# Altium integrated library TI Power Management Lighting and Display.IntLib: 745 symbols (part 22 of 48)
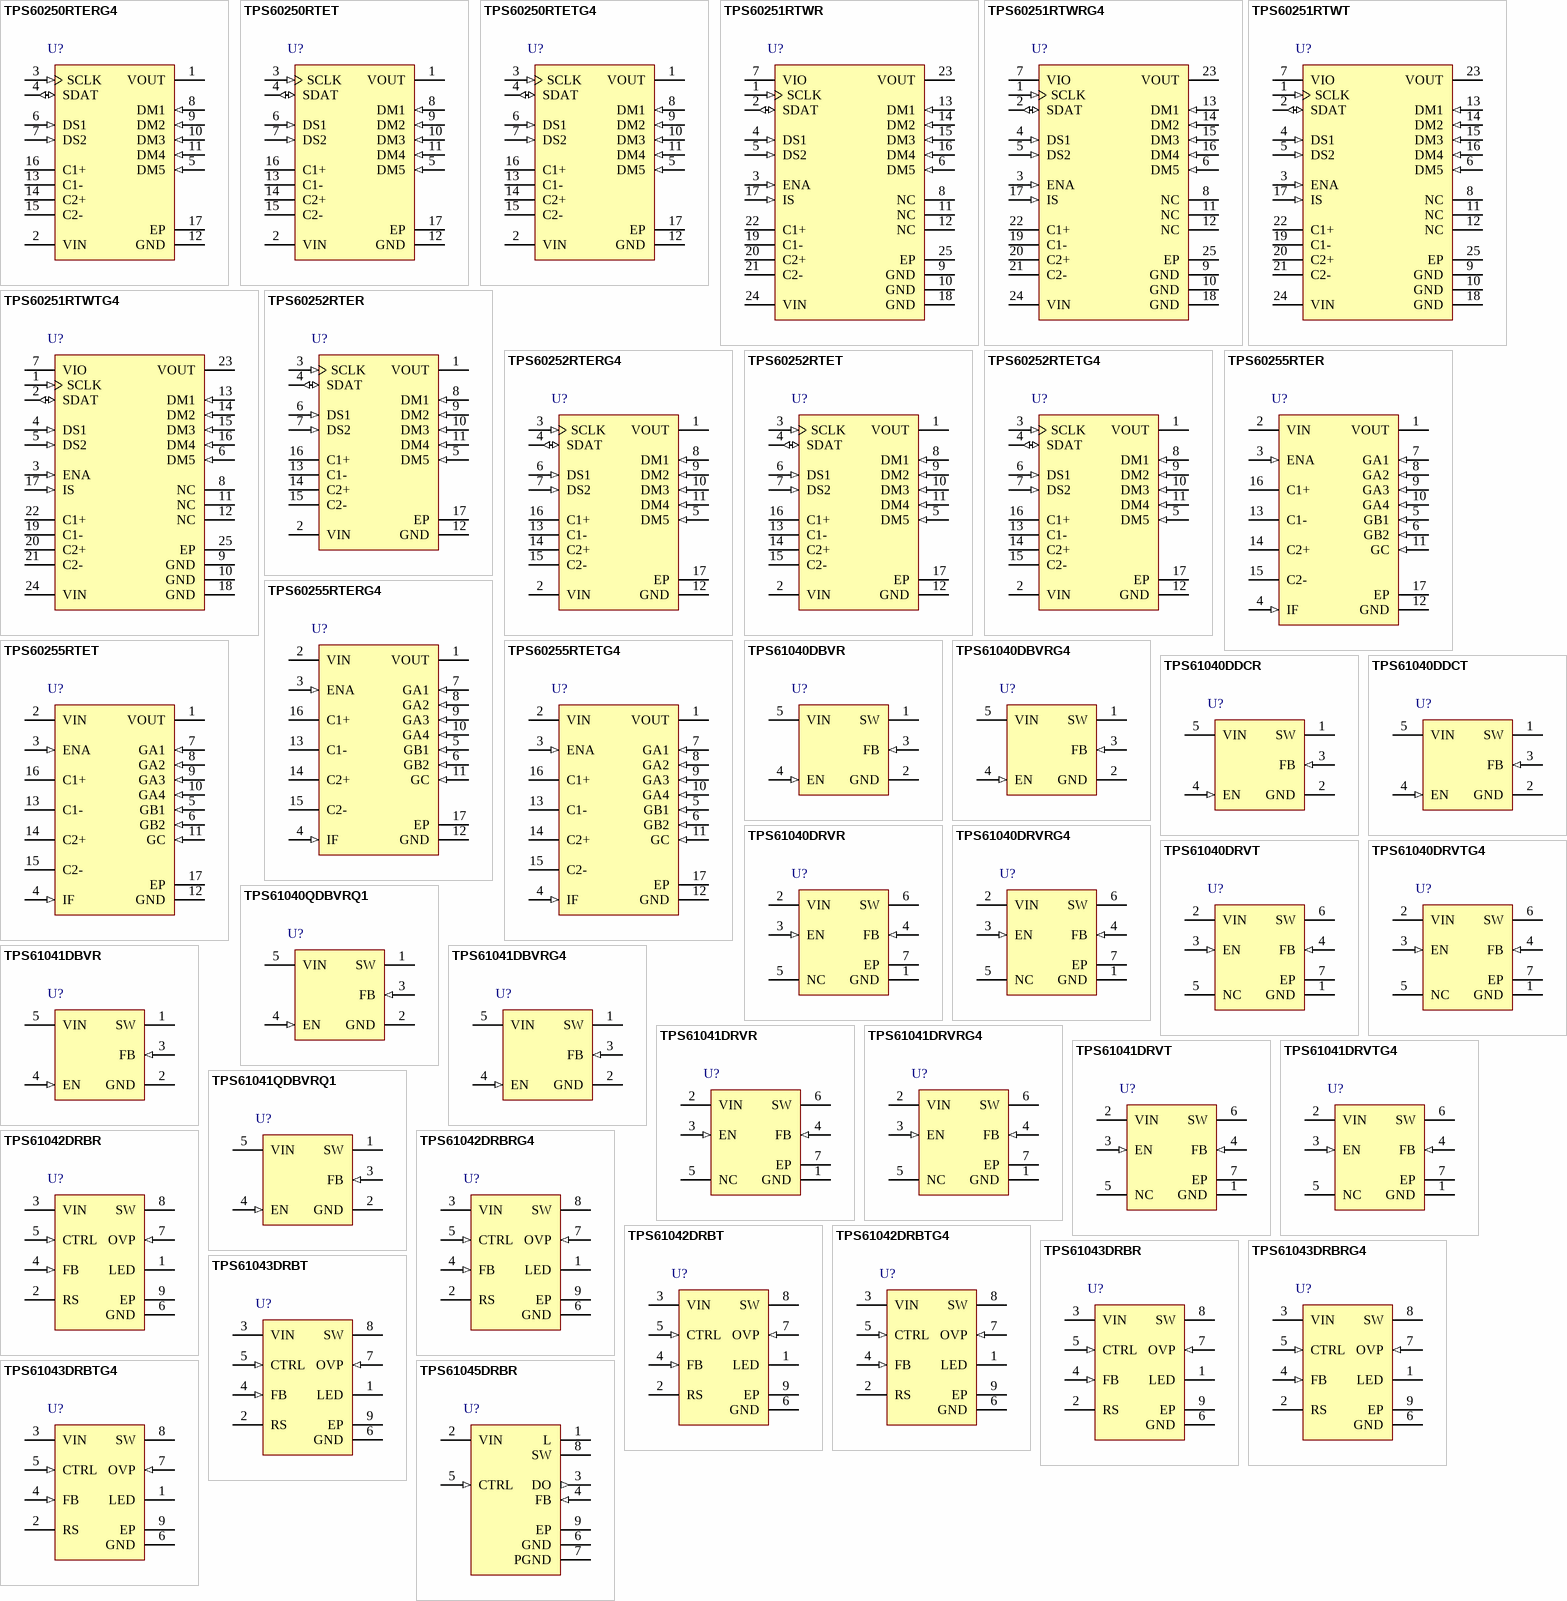
[diagram p52: symbols TPS60250RTERG4 to TPS61045DRBR]

## TPS60251RTWTG4
designator U?
High Efficiency Charge Pump for 7 WLEDs with I2C Interface, 3 to 6 V, -40 to 85 degC, 24-pin QFN (RTW24), Green (RoHS & no Sb/Br); Manufacturer: Texas Instruments; PartNumber: TPS60251RTWTG4; Dimming: TRUE; Iout(Max)(A): 0.23; Iq(Typ)(mA): 0.068; Rating: Catalog; SubFamily: White LED Driver; Switching Frequency(Max)(kHz): 750; Topology: Boost; Vin(Max)(V): 6; Vin(Min)(V): 3; DatasheetVersion: SLVS755; PackageVersion: 4206244/C; PackageReference: RTW24-2450X2450TP; PackageDescription: 24-Pin Plastic Flat Pack, Body 4 x 4 mm, Pitch 0.5 mm; Supplier 1: Digi-Key; Supplier Part Number 1: TPS60251RTWTG4-ND; Supplier 2: Newark; Supplier Part Number 2: 52M6119; Supplier 3: Mouser; Supplier Part Number 3: 595-TPS60251RTWTG4; Eco-Plan: Green (RoHS & no Sb/Br); Mounting Technology: Surface Mount; Code_JEDEC: MO-220; ComponentLink1Description: Manufacturer URL; ComponentLink1URL: http://www.ti.com/; ComponentLink2Description: Datasheet; ComponentLink2URL: http://www.ti.com/general/docs/lit/getliterature.tsp?genericPartNumber=TPS60251&fileType=pdf; ComponentLink3Description: Package Specification; ComponentLink3URL: http://www.ti.com/litv/pdf/mplc004a
footprint TI-RTW24-2450X2450TP_V (QFN, 24-Leads, Body 4x4mm, Pitch 0.5mm, Thermal Pad 2.45x2.45mm)
pins: 1 SCLK (in) "I2C Interface.", 2 SDAT (io) "I2C Interface.", 3 ENA (in) "Hardware enable/disable pin. Connect this pin high to enable the device. Connect this pin low to disable the device. Do not leave this pin unconnected.", 4 DS1 (in) "Current sink input. Connect the cathode of one of the sub display white LEDs to this pin.", 5 DS2 (in) "Current sink input. Connect the cathode of one of the sub display white LEDs to this pin.", 6 DM5 (in) "Current sink input. Connect the cathode of the aux display or the 5th main display white LED to this pin.", 7 VIO (power) "I/O Voltage input (1.8V). Connect an input voltage supply of 1.8V to VIN to set the logic levels for the I2C interface.", 8 NC "No connection.", 9 GND (power) "Ground.", 10 GND (power) "Ground.", 11 NC "No connection.", 12 NC "No connection.", 13 DM1 (in) "Current sink input. Connect the cathode of one of the main display white LED to this pin.", 14 DM2 (in) "Current sink input. Connect the cathode of one of the main display white LED to this pin.", 15 DM3 (in) "Current sink input. Connect the cathode of one of the main display white LED to this pin.", 16 DM4 (in) "Current sink input. Connect the cathode of one of the main display white LED to this pin.", 17 IS (in) "Maximum LED current setting input. Connect a resistor (RIS) between this pin and GND to set the full-scale white LED current for sub (DS1, DS2), main (DM1, DM2, DM3, DM4), and DM5 LEDs. See the Setting the LED Current (See Datasheet)", 18 GND (power) "Ground.", 19 C1- "Connect to the flying capacitor C1.", 20 C2+ "Connect to the flying capacitor C2.", 21 C2- "Connect to the flying capacitor C2.", 22 C1+ "Connect to the flying capacitor C1.", 23 VOUT (power) "Connect the anodes of the sub, main, and aux display white LEDs to this pin. Bypass VOUT to GND with a 4.7-uF or greater ceramic capacitor.", 24 VIN (power) "Supply voltage input. Connect to a 3-V to 6-V input supply source. Bypass VIN to GND with a 4.7-uF or greater ceramic capacitor.", 25 EP "Exposed thermal pad."

## TPS60252RTER
designator U?
High Efficiency Charge Pump for 7 WLEDs with I2C Interface, 3 to 6 V, -40 to 85 degC, 16-pin QFN (RTE16), Green (RoHS & no Sb/Br); Manufacturer: Texas Instruments; PartNumber: TPS60252RTER; Dimming: TRUE; Iout(Max)(A): 0.23; Iq(Typ)(mA): 0.068; Rating: Catalog; SubFamily: White LED Driver; Switching Frequency(Max)(kHz): 750; Topology: Boost; Vin(Max)(V): 6; Vin(Min)(V): 3; DatasheetVersion: SLVS769C; PackageVersion: 4205254/D; PackageReference: RTE16-1700X1700TP; PackageDescription: 16-Pin Plastic Flat Pack, Body 3 x 3 mm, Pitch 0.5 mm; Supplier 1: Digi-Key; Supplier Part Number 1: TPS60252RTER-ND; Supplier 2: Mouser; Supplier Part Number 2: 595-TPS60252RTER; Eco-Plan: Green (RoHS & no Sb/Br); Mounting Technology: Surface Mount; Code_JEDEC: MO-220; ComponentLink1Description: Manufacturer URL; ComponentLink1URL: http://www.ti.com/; ComponentLink2Description: Datasheet; ComponentLink2URL: http://www.ti.com/general/docs/lit/getliterature.tsp?genericPartNumber=TPS60252&fileType=pdf; ComponentLink3Description: Package Specification; ComponentLink3URL: http://www.ti.com/litv/pdf/mpqf149c
footprint TI-RTE16-1700X1700TP_V (QFN, 16-Leads, Body 3x3mm, Pitch 0.5mm, Thermal Pad 1.7x1.7mm)
pins: 1 VOUT (power) "Connect the anodes of the sub, main, and aux display white LEDs to this pin.", 2 VIN (power) "Supply voltage input. Connect to a 3 V to 6 V input supply source.", 3 SCLK (in) "I2C Interface", 4 SDAT (io) "I2C Interface", 5 DM5 (in) "Current sink inputs. Connect the cathode of the aux display or the 5th main display white LED to this pin.", 6 DS1 (in) "Current sink inputs. Connect the cathode of one of the sub display white LEDs to these pins.", 7 DS2 (in) "Current sink inputs. Connect the cathode of one of the sub display white LEDs to these pins.", 8 DM1 (in) "Current sink input. Connect the cathode of one of the main display white LEDs to these pins.", 9 DM2 (in) "Current sink input. Connect the cathode of one of the main display white LEDs to these pins.", 10 DM3 (in) "Current sink input. Connect the cathode of one of the main display white LEDs to these pins.", 11 DM4 (in) "Current sink input. Connect the cathode of one of the main display white LEDs to these pins.", 12 GND (power) "Ground", 13 C1- "Connect to the flying capacitor C1", 14 C2+ "Connect to the flying capacitor C2", 15 C2- "Connect to the flying capacitor C2", 16 C1+ "Connect to the flying capacitor C1", 17 EP (power) "Exposed Thermal Pad"

## TPS60252RTERG4
designator U?
High Efficiency Charge Pump for 7 WLEDs with I2C Interface, 3 to 6 V, -40 to 85 degC, 16-pin QFN (RTE16), Green (RoHS & no Sb/Br); Manufacturer: Texas Instruments; PartNumber: TPS60252RTERG4; Dimming: TRUE; Iout(Max)(A): 0.23; Iq(Typ)(mA): 0.068; Rating: Catalog; SubFamily: White LED Driver; Switching Frequency(Max)(kHz): 750; Topology: Boost; Vin(Max)(V): 6; Vin(Min)(V): 3; DatasheetVersion: SLVS769C; PackageVersion: 4205254/D; PackageReference: RTE16-1700X1700TP; PackageDescription: 16-Pin Plastic Flat Pack, Body 3 x 3 mm, Pitch 0.5 mm; Supplier 1: Digi-Key; Supplier Part Number 1: TPS60252RTERG4-ND; Supplier 2: Mouser; Supplier Part Number 2: 595-TPS60252RTERG4; Eco-Plan: Green (RoHS & no Sb/Br); Mounting Technology: Surface Mount; Code_JEDEC: MO-220; ComponentLink1Description: Manufacturer URL; ComponentLink1URL: http://www.ti.com/; ComponentLink2Description: Datasheet; ComponentLink2URL: http://www.ti.com/general/docs/lit/getliterature.tsp?genericPartNumber=TPS60252&fileType=pdf; ComponentLink3Description: Package Specification; ComponentLink3URL: http://www.ti.com/litv/pdf/mpqf149c
footprint TI-RTE16-1700X1700TP_V (QFN, 16-Leads, Body 3x3mm, Pitch 0.5mm, Thermal Pad 1.7x1.7mm)
pins: 1 VOUT (power) "Connect the anodes of the sub, main, and aux display white LEDs to this pin.", 2 VIN (power) "Supply voltage input. Connect to a 3 V to 6 V input supply source.", 3 SCLK (in) "I2C Interface", 4 SDAT (io) "I2C Interface", 5 DM5 (in) "Current sink inputs. Connect the cathode of the aux display or the 5th main display white LED to this pin.", 6 DS1 (in) "Current sink inputs. Connect the cathode of one of the sub display white LEDs to these pins.", 7 DS2 (in) "Current sink inputs. Connect the cathode of one of the sub display white LEDs to these pins.", 8 DM1 (in) "Current sink input. Connect the cathode of one of the main display white LEDs to these pins.", 9 DM2 (in) "Current sink input. Connect the cathode of one of the main display white LEDs to these pins.", 10 DM3 (in) "Current sink input. Connect the cathode of one of the main display white LEDs to these pins.", 11 DM4 (in) "Current sink input. Connect the cathode of one of the main display white LEDs to these pins.", 12 GND (power) "Ground", 13 C1- "Connect to the flying capacitor C1", 14 C2+ "Connect to the flying capacitor C2", 15 C2- "Connect to the flying capacitor C2", 16 C1+ "Connect to the flying capacitor C1", 17 EP (power) "Exposed Thermal Pad"

## TPS60252RTET
designator U?
High Efficiency Charge Pump for 7 WLEDs with I2C Interface, 3 to 6 V, -40 to 85 degC, 16-pin QFN (RTE16), Green (RoHS & no Sb/Br); Manufacturer: Texas Instruments; PartNumber: TPS60252RTET; Dimming: TRUE; Iout(Max)(A): 0.23; Iq(Typ)(mA): 0.068; Rating: Catalog; SubFamily: White LED Driver; Switching Frequency(Max)(kHz): 750; Topology: Boost; Vin(Max)(V): 6; Vin(Min)(V): 3; DatasheetVersion: SLVS769C; PackageVersion: 4205254/D; PackageReference: RTE16-1700X1700TP; PackageDescription: 16-Pin Plastic Flat Pack, Body 3 x 3 mm, Pitch 0.5 mm; Supplier 1: Digi-Key; Supplier Part Number 1: 296-23407-2-ND; Supplier 2: Digi-Key; Supplier Part Number 2: 296-23407-1-ND; Supplier 3: Digi-Key; Supplier Part Number 3: 296-23407-6-ND; Supplier 4: Farnell; Supplier Part Number 4: 1647912; Supplier 5: Mouser; Supplier Part Number 5: 595-TPS60252RTET; Eco-Plan: Green (RoHS & no Sb/Br); Mounting Technology: Surface Mount; Code_JEDEC: MO-220; ComponentLink1Description: Manufacturer URL; ComponentLink1URL: http://www.ti.com/; ComponentLink2Description: Datasheet; ComponentLink2URL: http://www.ti.com/general/docs/lit/getliterature.tsp?genericPartNumber=TPS60252&fileType=pdf; ComponentLink3Description: Package Specification; ComponentLink3URL: http://www.ti.com/litv/pdf/mpqf149c
footprint TI-RTE16-1700X1700TP_V (QFN, 16-Leads, Body 3x3mm, Pitch 0.5mm, Thermal Pad 1.7x1.7mm)
pins: 1 VOUT (power) "Connect the anodes of the sub, main, and aux display white LEDs to this pin.", 2 VIN (power) "Supply voltage input. Connect to a 3 V to 6 V input supply source.", 3 SCLK (in) "I2C Interface", 4 SDAT (io) "I2C Interface", 5 DM5 (in) "Current sink inputs. Connect the cathode of the aux display or the 5th main display white LED to this pin.", 6 DS1 (in) "Current sink inputs. Connect the cathode of one of the sub display white LEDs to these pins.", 7 DS2 (in) "Current sink inputs. Connect the cathode of one of the sub display white LEDs to these pins.", 8 DM1 (in) "Current sink input. Connect the cathode of one of the main display white LEDs to these pins.", 9 DM2 (in) "Current sink input. Connect the cathode of one of the main display white LEDs to these pins.", 10 DM3 (in) "Current sink input. Connect the cathode of one of the main display white LEDs to these pins.", 11 DM4 (in) "Current sink input. Connect the cathode of one of the main display white LEDs to these pins.", 12 GND (power) "Ground", 13 C1- "Connect to the flying capacitor C1", 14 C2+ "Connect to the flying capacitor C2", 15 C2- "Connect to the flying capacitor C2", 16 C1+ "Connect to the flying capacitor C1", 17 EP (power) "Exposed Thermal Pad"

## TPS60252RTETG4
designator U?
High Efficiency Charge Pump for 7 WLEDs with I2C Interface, 3 to 6 V, -40 to 85 degC, 16-pin QFN (RTE16), Green (RoHS & no Sb/Br); Manufacturer: Texas Instruments; PartNumber: TPS60252RTETG4; Dimming: TRUE; Iout(Max)(A): 0.23; Iq(Typ)(mA): 0.068; Rating: Catalog; SubFamily: White LED Driver; Switching Frequency(Max)(kHz): 750; Topology: Boost; Vin(Max)(V): 6; Vin(Min)(V): 3; DatasheetVersion: SLVS769C; PackageVersion: 4205254/D; PackageReference: RTE16-1700X1700TP; PackageDescription: 16-Pin Plastic Flat Pack, Body 3 x 3 mm, Pitch 0.5 mm; Supplier 1: Digi-Key; Supplier Part Number 1: TPS60252RTETG4-ND; Supplier 2: Mouser; Supplier Part Number 2: 595-TPS60252RTETG4; Eco-Plan: Green (RoHS & no Sb/Br); Mounting Technology: Surface Mount; Code_JEDEC: MO-220; ComponentLink1Description: Manufacturer URL; ComponentLink1URL: http://www.ti.com/; ComponentLink2Description: Datasheet; ComponentLink2URL: http://www.ti.com/general/docs/lit/getliterature.tsp?genericPartNumber=TPS60252&fileType=pdf; ComponentLink3Description: Package Specification; ComponentLink3URL: http://www.ti.com/litv/pdf/mpqf149c
footprint TI-RTE16-1700X1700TP_V (QFN, 16-Leads, Body 3x3mm, Pitch 0.5mm, Thermal Pad 1.7x1.7mm)
pins: 1 VOUT (power) "Connect the anodes of the sub, main, and aux display white LEDs to this pin.", 2 VIN (power) "Supply voltage input. Connect to a 3 V to 6 V input supply source.", 3 SCLK (in) "I2C Interface", 4 SDAT (io) "I2C Interface", 5 DM5 (in) "Current sink inputs. Connect the cathode of the aux display or the 5th main display white LED to this pin.", 6 DS1 (in) "Current sink inputs. Connect the cathode of one of the sub display white LEDs to these pins.", 7 DS2 (in) "Current sink inputs. Connect the cathode of one of the sub display white LEDs to these pins.", 8 DM1 (in) "Current sink input. Connect the cathode of one of the main display white LEDs to these pins.", 9 DM2 (in) "Current sink input. Connect the cathode of one of the main display white LEDs to these pins.", 10 DM3 (in) "Current sink input. Connect the cathode of one of the main display white LEDs to these pins.", 11 DM4 (in) "Current sink input. Connect the cathode of one of the main display white LEDs to these pins.", 12 GND (power) "Ground", 13 C1- "Connect to the flying capacitor C1", 14 C2+ "Connect to the flying capacitor C2", 15 C2- "Connect to the flying capacitor C2", 16 C1+ "Connect to the flying capacitor C1", 17 EP (power) "Exposed Thermal Pad"

## TPS60255RTER
designator U?
7-Channel, High Efficiency 175 mA Charge Pump for White LED Backligh, 2.7 to 6 V, -40 to 85 degC, 16-pin QFN (RTE16), Green (RoHS & no Sb/Br); Manufacturer: Texas Instruments; PartNumber: TPS60255RTER; Dimming: TRUE; Iout(Max)(A): 0.23; Iq(Typ)(mA): 0.068; Rating: Catalog; SubFamily: White LED Driver; Switching Frequency(Max)(kHz): 750; Topology: Boost; Vin(Max)(V): 6; Vin(Min)(V): 2.7; DatasheetVersion: SLVS825; PackageVersion: 4205254/D; PackageReference: RTE16-1700X1700TP; PackageDescription: 16-Pin Plastic Flat Pack, Body 3 x 3 mm, Pitch 0.5 mm; Supplier 1: Digi-Key; Supplier Part Number 1: 296-23329-2-ND; Supplier 2: Digi-Key; Supplier Part Number 2: 296-23329-1-ND; Supplier 3: Digi-Key; Supplier Part Number 3: 296-23329-6-ND; Supplier 4: Mouser; Supplier Part Number 4: 595-TPS60255RTER; Eco-Plan: Green (RoHS & no Sb/Br); Mounting Technology: Surface Mount; Code_JEDEC: MO-220; ComponentLink1Description: Manufacturer URL; ComponentLink1URL: http://www.ti.com/; ComponentLink2Description: Datasheet; ComponentLink2URL: http://www.ti.com/general/docs/lit/getliterature.tsp?genericPartNumber=TPS60255&fileType=pdf; ComponentLink3Description: Package Specification; ComponentLink3URL: http://www.ti.com/litv/pdf/mpqf149c
footprint TI-RTE16-1700X1700TP_V (QFN, 16-Leads, Body 3x3mm, Pitch 0.5mm, Thermal Pad 1.7x1.7mm)
pins: 1 VOUT (power) "Connect the output capacitor and the anode of the white LEDs to this pin", 2 VIN (power) "Supply voltage input", 3 ENA (in) "Hardware Enable/Disable Pin (High = Enable)", 4 IF (in) "Single wire interface for on/off and brightness control.", 5 GB1 (in) "Current sink input. Connect the cathode of the white LED to this pin.", 6 GB2 (in) "Current sink input. Connect the cathode of the white LED to this pin.", 7 GA1 (in) "Current sink input. Connect the cathode of the white LED to this pin.", 8 GA2 (in) "Current sink input. Connect the cathode of the white LED to this pin.", 9 GA3 (in) "Current sink input. Connect the cathode of the white LED to this pin.", 10 GA4 (in) "Current sink input. Connect the cathode of the white LED to this pin.", 11 GC (in) "Current sink input. Connect the cathode of the white LED to this pin.", 12 GND (power) "Ground", 13 C1- "Connect to the flying capacitor C1", 14 C2+ "Connect to the flying capacitor C2", 15 C2- "Connect to the flying capacitor C2", 16 C1+ "Connect to the flying capacitor C1", 17 EP (power) "Exposed Thermal Pad"

## TPS60255RTERG4
designator U?
7-Channel, High Efficiency 175 mA Charge Pump for White LED Backligh, 2.7 to 6 V, -40 to 85 degC, 16-pin QFN (RTE16), Green (RoHS & no Sb/Br); Manufacturer: Texas Instruments; PartNumber: TPS60255RTERG4; Dimming: TRUE; Iout(Max)(A): 0.23; Iq(Typ)(mA): 0.068; Rating: Catalog; SubFamily: White LED Driver; Switching Frequency(Max)(kHz): 750; Topology: Boost; Vin(Max)(V): 6; Vin(Min)(V): 2.7; DatasheetVersion: SLVS825; PackageVersion: 4205254/D; PackageReference: RTE16-1700X1700TP; PackageDescription: 16-Pin Plastic Flat Pack, Body 3 x 3 mm, Pitch 0.5 mm; Supplier 1: Digi-Key; Supplier Part Number 1: TPS60255RTERG4-ND; Supplier 2: Mouser; Supplier Part Number 2: 595-TPS60255RTERG4; Eco-Plan: Green (RoHS & no Sb/Br); Mounting Technology: Surface Mount; Code_JEDEC: MO-220; ComponentLink1Description: Manufacturer URL; ComponentLink1URL: http://www.ti.com/; ComponentLink2Description: Datasheet; ComponentLink2URL: http://www.ti.com/general/docs/lit/getliterature.tsp?genericPartNumber=TPS60255&fileType=pdf; ComponentLink3Description: Package Specification; ComponentLink3URL: http://www.ti.com/litv/pdf/mpqf149c
footprint TI-RTE16-1700X1700TP_V (QFN, 16-Leads, Body 3x3mm, Pitch 0.5mm, Thermal Pad 1.7x1.7mm)
pins: 1 VOUT (power) "Connect the output capacitor and the anode of the white LEDs to this pin", 2 VIN (power) "Supply voltage input", 3 ENA (in) "Hardware Enable/Disable Pin (High = Enable)", 4 IF (in) "Single wire interface for on/off and brightness control.", 5 GB1 (in) "Current sink input. Connect the cathode of the white LED to this pin.", 6 GB2 (in) "Current sink input. Connect the cathode of the white LED to this pin.", 7 GA1 (in) "Current sink input. Connect the cathode of the white LED to this pin.", 8 GA2 (in) "Current sink input. Connect the cathode of the white LED to this pin.", 9 GA3 (in) "Current sink input. Connect the cathode of the white LED to this pin.", 10 GA4 (in) "Current sink input. Connect the cathode of the white LED to this pin.", 11 GC (in) "Current sink input. Connect the cathode of the white LED to this pin.", 12 GND (power) "Ground", 13 C1- "Connect to the flying capacitor C1", 14 C2+ "Connect to the flying capacitor C2", 15 C2- "Connect to the flying capacitor C2", 16 C1+ "Connect to the flying capacitor C1", 17 EP (power) "Exposed Thermal Pad"

## TPS60255RTET
designator U?
7-Channel, High Efficiency 175 mA Charge Pump for White LED Backligh, 2.7 to 6 V, -40 to 85 degC, 16-pin QFN (RTE16), Green (RoHS & no Sb/Br); Manufacturer: Texas Instruments; PartNumber: TPS60255RTET; Dimming: TRUE; Iout(Max)(A): 0.23; Iq(Typ)(mA): 0.068; Rating: Catalog; SubFamily: White LED Driver; Switching Frequency(Max)(kHz): 750; Topology: Boost; Vin(Max)(V): 6; Vin(Min)(V): 2.7; DatasheetVersion: SLVS825; PackageVersion: 4205254/D; PackageReference: RTE16-1700X1700TP; PackageDescription: 16-Pin Plastic Flat Pack, Body 3 x 3 mm, Pitch 0.5 mm; Supplier 1: Digi-Key; Supplier Part Number 1: 296-32498-2-ND; Supplier 2: Digi-Key; Supplier Part Number 2: 296-32498-1-ND; Supplier 3: Digi-Key; Supplier Part Number 3: 296-32498-6-ND; Supplier 4: Newark; Supplier Part Number 4: 95M0061; Supplier 5: Mouser; Supplier Part Number 5: 595-TPS60255RTET; Eco-Plan: Green (RoHS & no Sb/Br); Mounting Technology: Surface Mount; Code_JEDEC: MO-220; ComponentLink1Description: Manufacturer URL; ComponentLink1URL: http://www.ti.com/; ComponentLink2Description: Datasheet; ComponentLink2URL: http://www.ti.com/general/docs/lit/getliterature.tsp?genericPartNumber=TPS60255&fileType=pdf; ComponentLink3Description: Package Specification; ComponentLink3URL: http://www.ti.com/litv/pdf/mpqf149c
footprint TI-RTE16-1700X1700TP_V (QFN, 16-Leads, Body 3x3mm, Pitch 0.5mm, Thermal Pad 1.7x1.7mm)
pins: 1 VOUT (power) "Connect the output capacitor and the anode of the white LEDs to this pin", 2 VIN (power) "Supply voltage input", 3 ENA (in) "Hardware Enable/Disable Pin (High = Enable)", 4 IF (in) "Single wire interface for on/off and brightness control.", 5 GB1 (in) "Current sink input. Connect the cathode of the white LED to this pin.", 6 GB2 (in) "Current sink input. Connect the cathode of the white LED to this pin.", 7 GA1 (in) "Current sink input. Connect the cathode of the white LED to this pin.", 8 GA2 (in) "Current sink input. Connect the cathode of the white LED to this pin.", 9 GA3 (in) "Current sink input. Connect the cathode of the white LED to this pin.", 10 GA4 (in) "Current sink input. Connect the cathode of the white LED to this pin.", 11 GC (in) "Current sink input. Connect the cathode of the white LED to this pin.", 12 GND (power) "Ground", 13 C1- "Connect to the flying capacitor C1", 14 C2+ "Connect to the flying capacitor C2", 15 C2- "Connect to the flying capacitor C2", 16 C1+ "Connect to the flying capacitor C1", 17 EP (power) "Exposed Thermal Pad"

## TPS60255RTETG4
designator U?
7-Channel, High Efficiency 175 mA Charge Pump for White LED Backligh, 2.7 to 6 V, -40 to 85 degC, 16-pin QFN (RTE16), Green (RoHS & no Sb/Br); Manufacturer: Texas Instruments; PartNumber: TPS60255RTETG4; Dimming: TRUE; Iout(Max)(A): 0.23; Iq(Typ)(mA): 0.068; Rating: Catalog; SubFamily: White LED Driver; Switching Frequency(Max)(kHz): 750; Topology: Boost; Vin(Max)(V): 6; Vin(Min)(V): 2.7; DatasheetVersion: SLVS825; PackageVersion: 4205254/D; PackageReference: RTE16-1700X1700TP; PackageDescription: 16-Pin Plastic Flat Pack, Body 3 x 3 mm, Pitch 0.5 mm; Supplier 1: Digi-Key; Supplier Part Number 1: TPS60255RTETG4-ND; Supplier 2: Mouser; Supplier Part Number 2: 595-TPS60255RTETG4; Eco-Plan: Green (RoHS & no Sb/Br); Mounting Technology: Surface Mount; Code_JEDEC: MO-220; ComponentLink1Description: Manufacturer URL; ComponentLink1URL: http://www.ti.com/; ComponentLink2Description: Datasheet; ComponentLink2URL: http://www.ti.com/general/docs/lit/getliterature.tsp?genericPartNumber=TPS60255&fileType=pdf; ComponentLink3Description: Package Specification; ComponentLink3URL: http://www.ti.com/litv/pdf/mpqf149c
footprint TI-RTE16-1700X1700TP_V (QFN, 16-Leads, Body 3x3mm, Pitch 0.5mm, Thermal Pad 1.7x1.7mm)
pins: 1 VOUT (power) "Connect the output capacitor and the anode of the white LEDs to this pin", 2 VIN (power) "Supply voltage input", 3 ENA (in) "Hardware Enable/Disable Pin (High = Enable)", 4 IF (in) "Single wire interface for on/off and brightness control.", 5 GB1 (in) "Current sink input. Connect the cathode of the white LED to this pin.", 6 GB2 (in) "Current sink input. Connect the cathode of the white LED to this pin.", 7 GA1 (in) "Current sink input. Connect the cathode of the white LED to this pin.", 8 GA2 (in) "Current sink input. Connect the cathode of the white LED to this pin.", 9 GA3 (in) "Current sink input. Connect the cathode of the white LED to this pin.", 10 GA4 (in) "Current sink input. Connect the cathode of the white LED to this pin.", 11 GC (in) "Current sink input. Connect the cathode of the white LED to this pin.", 12 GND (power) "Ground", 13 C1- "Connect to the flying capacitor C1", 14 C2+ "Connect to the flying capacitor C2", 15 C2- "Connect to the flying capacitor C2", 16 C1+ "Connect to the flying capacitor C1", 17 EP (power) "Exposed Thermal Pad"

## TPS61040DBVR
designator U?
28 V, 400 mA Switch Boost Converter for White LED Applications, 1.8 to 6 V, -40 to 85 degC, 5-pin SOT23 (DBV5), Green (RoHS & no Sb/Br); Manufacturer: Texas Instruments; PartNumber: TPS61040DBVR; Dimming: TRUE; Iout(Max)(A): 0.09; Iq(Typ)(mA): 0.028; Rating: Catalog; SubFamily: White LED Driver; Switching Frequency(Max)(kHz): 1000; Vin(Max)(V): 6; Vin(Min)(V): 1.8; DatasheetVersion: SLVS413F; PackageVersion: 4073253-4/K; PackageReference: DBV5; PackageDescription: 5-Pin Plastic Small Outline, Body 1.60 × 2.90 mm, Pitch 0.95 mm; Supplier 1: Digi-Key; Supplier Part Number 1: 296-12685-2-ND; Supplier 2: Digi-Key; Supplier Part Number 2: 296-12685-1-ND; Supplier 3: Digi-Key; Supplier Part Number 3: 296-12685-6-ND; Supplier 4: Farnell; Supplier Part Number 4: 1461061; Supplier 5: Farnell; Supplier Part Number 5: 1461061RL; Supplier 6: Newark; Supplier Part Number 6: 35K1326; Supplier 7: Mouser; Supplier Part Number 7: 595-TPS61040DBVR; Eco-Plan: Green (RoHS & no Sb/Br); Topology: Boost; Mounting Technology: Surface Mount; Code_JEDEC: MO-178; ComponentLink1Description: Manufacturer URL; ComponentLink1URL: http://www.ti.com/; ComponentLink2Description: Datasheet; ComponentLink2URL: http://www.ti.com/general/docs/lit/getliterature.tsp?genericPartNumber=TPS61040&fileType=pdf; ComponentLink3Description: Package Specification; ComponentLink3URL: http://www.ti.com/litv/pdf/mpds018i
footprint TI-DBV5_N (SOT23, 5-Leads, Body 2.9x1.6mm, Pitch 0.95mm, IPC Medium Density)
footprint TI-DBV5_L (SOT23, 5-Leads, Body 2.9x1.6mm, Pitch 0.95mm, IPC High Density)
footprint TI-DBV5_M (SOT23, 5-Leads, Body 2.9x1.6mm, Pitch 0.95mm, IPC Low Density)
pins: 1 SW (power) "Connect the inductor and the Schottky diode to this pin. This is the switch pin and is connected to the drain of the internal power MOSFET.", 2 GND (power) "Ground", 3 FB (in) "This is the feedback pin of the device. Connect this pin to the external voltage divider to program the desired output voltage.", 4 EN (in) "This is the enable pin of the device. Pulling this pin to ground forces the device into shutdown mode reducing the supply current to less than 1 mA. This pin should not be left floating and needs to be terminated.", 5 VIN (power) "Supply voltage pin"

## TPS61040DBVRG4
designator U?
28 V, 400 mA Switch Boost Converter for White LED Applications, 1.8 to 6 V, -40 to 85 degC, 5-pin SOT23 (DBV5), Green (RoHS & no Sb/Br); Manufacturer: Texas Instruments; PartNumber: TPS61040DBVRG4; Dimming: TRUE; Iout(Max)(A): 0.09; Iq(Typ)(mA): 0.028; Rating: Catalog; SubFamily: White LED Driver; Switching Frequency(Max)(kHz): 1000; Vin(Max)(V): 6; Vin(Min)(V): 1.8; DatasheetVersion: SLVS413F; PackageVersion: 4073253-4/K; PackageReference: DBV5; PackageDescription: 5-Pin Plastic Small Outline, Body 1.60 × 2.90 mm, Pitch 0.95 mm; Supplier 1: Digi-Key; Supplier Part Number 1: TPS61040DBVRG4-ND; Supplier 2: Newark; Supplier Part Number 2: 65J6904; Supplier 3: Mouser; Supplier Part Number 3: 595-TPS61040DBVRG4; Eco-Plan: Green (RoHS & no Sb/Br); Topology: Boost; Mounting Technology: Surface Mount; Code_JEDEC: MO-178; ComponentLink1Description: Manufacturer URL; ComponentLink1URL: http://www.ti.com/; ComponentLink2Description: Datasheet; ComponentLink2URL: http://www.ti.com/general/docs/lit/getliterature.tsp?genericPartNumber=TPS61040&fileType=pdf; ComponentLink3Description: Package Specification; ComponentLink3URL: http://www.ti.com/litv/pdf/mpds018i
footprint TI-DBV5_N (SOT23, 5-Leads, Body 2.9x1.6mm, Pitch 0.95mm, IPC Medium Density)
footprint TI-DBV5_L (SOT23, 5-Leads, Body 2.9x1.6mm, Pitch 0.95mm, IPC High Density)
footprint TI-DBV5_M (SOT23, 5-Leads, Body 2.9x1.6mm, Pitch 0.95mm, IPC Low Density)
pins: 1 SW (power) "Connect the inductor and the Schottky diode to this pin. This is the switch pin and is connected to the drain of the internal power MOSFET.", 2 GND (power) "Ground", 3 FB (in) "This is the feedback pin of the device. Connect this pin to the external voltage divider to program the desired output voltage.", 4 EN (in) "This is the enable pin of the device. Pulling this pin to ground forces the device into shutdown mode reducing the supply current to less than 1 mA. This pin should not be left floating and needs to be terminated.", 5 VIN (power) "Supply voltage pin"

## TPS61040DDCR
designator U?
28 V, 400 mA Switch Boost Converter for White LED Applications, 1.8 to 6 V, -40 to 85 degC, 5-pin SOT23 (DDC5), Green (RoHS & no Sb/Br); Manufacturer: Texas Instruments; PartNumber: TPS61040DDCR; Dimming: TRUE; Iout(Max)(A): 0.09; Iq(Typ)(mA): 0.028; Rating: Catalog; SubFamily: White LED Driver; Switching Frequency(Max)(kHz): 1000; Vin(Max)(V): 6; Vin(Min)(V): 1.8; DatasheetVersion: SLVS413F; PackageVersion: 4204403-2/E; PackageReference: DDC5; PackageDescription: 5-Pin Plastic Small Outline, Body 2.9 x 1.6 mm, 0.95 mm Pitch; Supplier 1: Digi-Key; Supplier Part Number 1: TPS61040DDCR-ND; Supplier 2: Newark; Supplier Part Number 2: 32T3300; Supplier 3: Mouser; Supplier Part Number 3: 595-TPS61040DDCR; Eco-Plan: Green (RoHS & no Sb/Br); Topology: Boost; Mounting Technology: Surface Mount; Code_JEDEC: MO-193; ComponentLink1Description: Manufacturer URL; ComponentLink1URL: http://www.ti.com/; ComponentLink2Description: Datasheet; ComponentLink2URL: http://www.ti.com/general/docs/lit/getliterature.tsp?genericPartNumber=TPS61040&fileType=pdf; ComponentLink3Description: Package Specification; ComponentLink3URL: http://www.ti.com/litv/pdf/mpds123d
footprint TI-DDC5_N (SOT23, 5-Leads, Body 2.9x1.6mm, Pitch 0.95mm, IPC Medium Density)
footprint TI-DDC5_L (SOT23, 5-Leads, Body 2.9x1.6mm, Pitch 0.95mm, IPC High Density)
footprint TI-DDC5_M (SOT23, 5-Leads, Body 2.9x1.6mm, Pitch 0.95mm, IPC Low Density)
pins: 1 SW (power) "Connect the inductor and the Schottky diode to this pin. This is the switch pin and is connected to the drain of the internal power MOSFET.", 2 GND (power) "Ground", 3 FB (in) "This is the feedback pin of the device. Connect this pin to the external voltage divider to program the desired output voltage.", 4 EN (in) "This is the enable pin of the device. Pulling this pin to ground forces the device into shutdown mode reducing the supply current to less than 1 mA. This pin should not be left floating and needs to be terminated.", 5 VIN (power) "Supply voltage pin"

## TPS61040DDCT
designator U?
28 V, 400 mA Switch Boost Converter for White LED Applications, 1.8 to 6 V, -40 to 85 degC, 5-pin SOT23 (DDC5), Green (RoHS & no Sb/Br); Manufacturer: Texas Instruments; PartNumber: TPS61040DDCT; Dimming: TRUE; Iout(Max)(A): 0.09; Iq(Typ)(mA): 0.028; Rating: Catalog; SubFamily: White LED Driver; Switching Frequency(Max)(kHz): 1000; Vin(Max)(V): 6; Vin(Min)(V): 1.8; DatasheetVersion: SLVS413F; PackageVersion: 4204403-2/E; PackageReference: DDC5; PackageDescription: 5-Pin Plastic Small Outline, Body 2.9 x 1.6 mm, 0.95 mm Pitch; Supplier 1: Digi-Key; Supplier Part Number 1: 296-28250-2-ND; Supplier 2: Digi-Key; Supplier Part Number 2: 296-28250-1-ND; Supplier 3: Digi-Key; Supplier Part Number 3: 296-28250-6-ND; Supplier 4: Mouser; Supplier Part Number 4: 595-TPS61040DDCT; Eco-Plan: Green (RoHS & no Sb/Br); Topology: Boost; Mounting Technology: Surface Mount; Code_JEDEC: MO-193; ComponentLink1Description: Manufacturer URL; ComponentLink1URL: http://www.ti.com/; ComponentLink2Description: Datasheet; ComponentLink2URL: http://www.ti.com/general/docs/lit/getliterature.tsp?genericPartNumber=TPS61040&fileType=pdf; ComponentLink3Description: Package Specification; ComponentLink3URL: http://www.ti.com/litv/pdf/mpds123d
footprint TI-DDC5_N (SOT23, 5-Leads, Body 2.9x1.6mm, Pitch 0.95mm, IPC Medium Density)
footprint TI-DDC5_L (SOT23, 5-Leads, Body 2.9x1.6mm, Pitch 0.95mm, IPC High Density)
footprint TI-DDC5_M (SOT23, 5-Leads, Body 2.9x1.6mm, Pitch 0.95mm, IPC Low Density)
pins: 1 SW (power) "Connect the inductor and the Schottky diode to this pin. This is the switch pin and is connected to the drain of the internal power MOSFET.", 2 GND (power) "Ground", 3 FB (in) "This is the feedback pin of the device. Connect this pin to the external voltage divider to program the desired output voltage.", 4 EN (in) "This is the enable pin of the device. Pulling this pin to ground forces the device into shutdown mode reducing the supply current to less than 1 mA. This pin should not be left floating and needs to be terminated.", 5 VIN (power) "Supply voltage pin"

## TPS61040DRVR
designator U?
28 V, 400 mA Switch Boost Converter for White LED Applications, 1.8 to 6 V, -40 to 85 degC, 6-pin SON (DRV6), Green (RoHS & no Sb/Br); Manufacturer: Texas Instruments; PartNumber: TPS61040DRVR; Dimming: TRUE; Iout(Max)(A): 0.09; Iq(Typ)(mA): 0.028; Rating: Catalog; SubFamily: White LED Driver; Switching Frequency(Max)(kHz): 1000; Vin(Max)(V): 6; Vin(Min)(V): 1.8; DatasheetVersion: SLVS413F; PackageVersion: 4206925/E; PackageReference: DRV6-1600X1000TP; PackageDescription: 6-Pin Plastic Small Outline No-Lead, Body 2 x 2 mm, Pitch 0.65 mm; Supplier 1: Digi-Key; Supplier Part Number 1: 296-22980-2-ND; Supplier 2: Digi-Key; Supplier Part Number 2: 296-22980-1-ND; Supplier 3: Digi-Key; Supplier Part Number 3: 296-22980-6-ND; Supplier 4: Newark; Supplier Part Number 4: 72M4767; Supplier 5: Mouser; Supplier Part Number 5: 595-TPS61040DRVR; Eco-Plan: Green (RoHS & no Sb/Br); Topology: Boost; Mounting Technology: Surface Mount; ComponentLink1Description: Manufacturer URL; ComponentLink1URL: http://www.ti.com/; ComponentLink2Description: Datasheet; ComponentLink2URL: http://www.ti.com/general/docs/lit/getliterature.tsp?genericPartNumber=TPS61040&fileType=pdf; ComponentLink3Description: Package Specification; ComponentLink3URL: http://www.ti.com/litv/pdf/mpds216d
footprint TI-DRV6-1600X1000TP_V (SON, 6-Leads, Body 2x2mm, Pitch 0.65mm, Thermal Pad 1X1.6mm)
pins: 1 GND (power) "Ground", 2 VIN (power) "Supply voltage pin", 3 EN (in) "This is the enable pin of the device. Pulling this pin to ground forces the device into shutdown mode reducing the supply current to less than 1 uA. This pin should not be left floating and needs to be terminated.", 4 FB (in) "This is the feedback pin of the device. Connect this pin to the external voltage divider to program the desired output voltage.", 5 NC "No connection", 6 SW (power) "Connect the inductor and the Schottky diode to this pin. This is the switch pin and is connected to the drain of the internal power MOSFET.", 7 EP "Exposed Thermal Pad."

## TPS61040DRVRG4
designator U?
28 V, 400 mA Switch Boost Converter for White LED Applications, 1.8 to 6 V, -40 to 85 degC, 6-pin SON (DRV6), Green (RoHS & no Sb/Br); Manufacturer: Texas Instruments; PartNumber: TPS61040DRVRG4; Dimming: TRUE; Iout(Max)(A): 0.09; Iq(Typ)(mA): 0.028; Rating: Catalog; SubFamily: White LED Driver; Switching Frequency(Max)(kHz): 1000; Vin(Max)(V): 6; Vin(Min)(V): 1.8; DatasheetVersion: SLVS413F; PackageVersion: 4206925/E; PackageReference: DRV6-1600X1000TP; PackageDescription: 6-Pin Plastic Small Outline No-Lead, Body 2 x 2 mm, Pitch 0.65 mm; Supplier 1: Digi-Key; Supplier Part Number 1: TPS61040DRVRG4-ND; Supplier 2: Mouser; Supplier Part Number 2: 595-TPS61040DRVRG4; Eco-Plan: Green (RoHS & no Sb/Br); Topology: Boost; Mounting Technology: Surface Mount; ComponentLink1Description: Manufacturer URL; ComponentLink1URL: http://www.ti.com/; ComponentLink2Description: Datasheet; ComponentLink2URL: http://www.ti.com/general/docs/lit/getliterature.tsp?genericPartNumber=TPS61040&fileType=pdf; ComponentLink3Description: Package Specification; ComponentLink3URL: http://www.ti.com/litv/pdf/mpds216d
footprint TI-DRV6-1600X1000TP_V (SON, 6-Leads, Body 2x2mm, Pitch 0.65mm, Thermal Pad 1X1.6mm)
pins: 1 GND (power) "Ground", 2 VIN (power) "Supply voltage pin", 3 EN (in) "This is the enable pin of the device. Pulling this pin to ground forces the device into shutdown mode reducing the supply current to less than 1 uA. This pin should not be left floating and needs to be terminated.", 4 FB (in) "This is the feedback pin of the device. Connect this pin to the external voltage divider to program the desired output voltage.", 5 NC "No connection", 6 SW (power) "Connect the inductor and the Schottky diode to this pin. This is the switch pin and is connected to the drain of the internal power MOSFET.", 7 EP "Exposed Thermal Pad."

## TPS61040DRVT
designator U?
28 V, 400 mA Switch Boost Converter for White LED Applications, 1.8 to 6 V, -40 to 85 degC, 6-pin SON (DRV6), Green (RoHS & no Sb/Br); Manufacturer: Texas Instruments; PartNumber: TPS61040DRVT; Dimming: TRUE; Iout(Max)(A): 0.09; Iq(Typ)(mA): 0.028; Rating: Catalog; SubFamily: White LED Driver; Switching Frequency(Max)(kHz): 1000; Vin(Max)(V): 6; Vin(Min)(V): 1.8; DatasheetVersion: SLVS413F; PackageVersion: 4206925/E; PackageReference: DRV6-1600X1000TP; PackageDescription: 6-Pin Plastic Small Outline No-Lead, Body 2 x 2 mm, Pitch 0.65 mm; Supplier 1: Digi-Key; Supplier Part Number 1: TPS61040DRVT-ND; Supplier 2: Newark; Supplier Part Number 2: 72M4768; Supplier 3: Mouser; Supplier Part Number 3: 595-TPS61040DRVT; Eco-Plan: Green (RoHS & no Sb/Br); Topology: Boost; Mounting Technology: Surface Mount; ComponentLink1Description: Manufacturer URL; ComponentLink1URL: http://www.ti.com/; ComponentLink2Description: Datasheet; ComponentLink2URL: http://www.ti.com/general/docs/lit/getliterature.tsp?genericPartNumber=TPS61040&fileType=pdf; ComponentLink3Description: Package Specification; ComponentLink3URL: http://www.ti.com/litv/pdf/mpds216d
footprint TI-DRV6-1600X1000TP_V (SON, 6-Leads, Body 2x2mm, Pitch 0.65mm, Thermal Pad 1X1.6mm)
pins: 1 GND (power) "Ground", 2 VIN (power) "Supply voltage pin", 3 EN (in) "This is the enable pin of the device. Pulling this pin to ground forces the device into shutdown mode reducing the supply current to less than 1 uA. This pin should not be left floating and needs to be terminated.", 4 FB (in) "This is the feedback pin of the device. Connect this pin to the external voltage divider to program the desired output voltage.", 5 NC "No connection", 6 SW (power) "Connect the inductor and the Schottky diode to this pin. This is the switch pin and is connected to the drain of the internal power MOSFET.", 7 EP "Exposed Thermal Pad."

## TPS61040DRVTG4
designator U?
28 V, 400 mA Switch Boost Converter for White LED Applications, 1.8 to 6 V, -40 to 85 degC, 6-pin SON (DRV6), Green (RoHS & no Sb/Br); Manufacturer: Texas Instruments; PartNumber: TPS61040DRVTG4; Dimming: TRUE; Iout(Max)(A): 0.09; Iq(Typ)(mA): 0.028; Rating: Catalog; SubFamily: White LED Driver; Switching Frequency(Max)(kHz): 1000; Vin(Max)(V): 6; Vin(Min)(V): 1.8; DatasheetVersion: SLVS413F; PackageVersion: 4206925/E; PackageReference: DRV6-1600X1000TP; PackageDescription: 6-Pin Plastic Small Outline No-Lead, Body 2 x 2 mm, Pitch 0.65 mm; Supplier 1: Digi-Key; Supplier Part Number 1: TPS61040DRVTG4-ND; Supplier 2: Mouser; Supplier Part Number 2: 595-TPS61040DRVTG4; Eco-Plan: Green (RoHS & no Sb/Br); Topology: Boost; Mounting Technology: Surface Mount; ComponentLink1Description: Manufacturer URL; ComponentLink1URL: http://www.ti.com/; ComponentLink2Description: Datasheet; ComponentLink2URL: http://www.ti.com/general/docs/lit/getliterature.tsp?genericPartNumber=TPS61040&fileType=pdf; ComponentLink3Description: Package Specification; ComponentLink3URL: http://www.ti.com/litv/pdf/mpds216d
footprint TI-DRV6-1600X1000TP_V (SON, 6-Leads, Body 2x2mm, Pitch 0.65mm, Thermal Pad 1X1.6mm)
pins: 1 GND (power) "Ground", 2 VIN (power) "Supply voltage pin", 3 EN (in) "This is the enable pin of the device. Pulling this pin to ground forces the device into shutdown mode reducing the supply current to less than 1 uA. This pin should not be left floating and needs to be terminated.", 4 FB (in) "This is the feedback pin of the device. Connect this pin to the external voltage divider to program the desired output voltage.", 5 NC "No connection", 6 SW (power) "Connect the inductor and the Schottky diode to this pin. This is the switch pin and is connected to the drain of the internal power MOSFET.", 7 EP "Exposed Thermal Pad."

## TPS61040QDBVRQ1
designator U?
Automotive Catalog Low Power DC/DC Boost Converter, 1.8 to 6 V, -40 to 125 degC, 5-pin SOT23 (DBV5), Green (RoHS & no Sb/Br); Manufacturer: Texas Instruments; PartNumber: TPS61040QDBVRQ1; Dimming: TRUE; Iout(Max)(A): 0.09; Iq(Typ)(mA): 0.05; SubFamily: White LED Driver; Switching Frequency(Max)(kHz): 1000; Vin(Max)(V): 6; Vin(Min)(V): 1.8; DatasheetVersion: SGLS276C; PackageVersion: 4073253-4/K; PackageReference: DBV5; PackageDescription: 5-Pin Plastic Small Outline, Body 1.60 × 2.90 mm, Pitch 0.95 mm; Supplier 1: Digi-Key; Supplier Part Number 1: 296-23425-2-ND; Supplier 2: Digi-Key; Supplier Part Number 2: 296-23425-1-ND; Supplier 3: Digi-Key; Supplier Part Number 3: 296-23425-6-ND; Supplier 4: Farnell; Supplier Part Number 4: 1903409; Supplier 5: Farnell; Supplier Part Number 5: 1903409RL; Supplier 6: Newark; Supplier Part Number 6: 55T3961; Supplier 7: Newark; Supplier Part Number 7: 73J8385; Supplier 8: Mouser; Supplier Part Number 8: 595-TPS61040QDBVRQ1; Eco-Plan: Green (RoHS & no Sb/Br); Rating: Automotive; Topology: Boost; Mounting Technology: Surface Mount; Code_JEDEC: MO-178; ComponentLink1Description: Manufacturer URL; ComponentLink1URL: http://www.ti.com/; ComponentLink2Description: Datasheet; ComponentLink2URL: http://www.ti.com/general/docs/lit/getliterature.tsp?genericPartNumber=TPS61040-Q1&fileType=pdf; ComponentLink3Description: Package Specification; ComponentLink3URL: http://www.ti.com/litv/pdf/mpds018i
footprint TI-DBV5_N (SOT23, 5-Leads, Body 2.9x1.6mm, Pitch 0.95mm, IPC Medium Density)
footprint TI-DBV5_L (SOT23, 5-Leads, Body 2.9x1.6mm, Pitch 0.95mm, IPC High Density)
footprint TI-DBV5_M (SOT23, 5-Leads, Body 2.9x1.6mm, Pitch 0.95mm, IPC Low Density)
pins: 1 SW (power) "Connect the inductor and the Schottky diode to this pin. This is the switch pin and is connected to the drain of the internal power MOSFET.", 2 GND (power) "Ground", 3 FB (in) "This is the feedback pin of the device. Connect this pin to the external voltage divider to program the desired output voltage.", 4 EN (in) "This is the enable pin of the device. Pulling this pin to ground forces the device into shutdown mode reducing the supply current to less than 1 µA. This pin should not be left floating and needs to be terminated.", 5 VIN (power) "Supply voltage pin"

## TPS61041DBVR
designator U?
28 V, 250 mA Switch Boost Converter for LCD and White LED Applications, 1.8 to 6 V, -40 to 85 degC, 5-pin SOT23 (DBV5), Green (RoHS & no Sb/Br); Manufacturer: Texas Instruments; PartNumber: TPS61041DBVR; Dimming: TRUE; Iout(Max)(A): 0.05; Iq(Typ)(mA): 0.028; Rating: Catalog; SubFamily: White LED Driver; Switching Frequency(Max)(kHz): 1000; Vin(Max)(V): 6; Vin(Min)(V): 1.8; DatasheetVersion: SLVS413F; PackageVersion: 4073253-4/K; PackageReference: DBV5; PackageDescription: 5-Pin Plastic Small Outline, Body 1.60 × 2.90 mm, Pitch 0.95 mm; Supplier 1: Digi-Key; Supplier Part Number 1: 296-12686-2-ND; Supplier 2: Digi-Key; Supplier Part Number 2: 296-12686-1-ND; Supplier 3: Digi-Key; Supplier Part Number 3: 296-12686-6-ND; Supplier 4: Farnell; Supplier Part Number 4: 1564963; Supplier 5: Farnell; Supplier Part Number 5: 1564963RL; Supplier 6: Newark; Supplier Part Number 6: 36K7661; Supplier 7: Mouser; Supplier Part Number 7: 595-TPS61041DBVR; Eco-Plan: Green (RoHS & no Sb/Br); Topology: Boost; Mounting Technology: Surface Mount; Code_JEDEC: MO-178; ComponentLink1Description: Manufacturer URL; ComponentLink1URL: http://www.ti.com/; ComponentLink2Description: Datasheet; ComponentLink2URL: http://www.ti.com/general/docs/lit/getliterature.tsp?genericPartNumber=TPS61041&fileType=pdf; ComponentLink3Description: Package Specification; ComponentLink3URL: http://www.ti.com/litv/pdf/mpds018i
footprint TI-DBV5_N (SOT23, 5-Leads, Body 2.9x1.6mm, Pitch 0.95mm, IPC Medium Density)
footprint TI-DBV5_L (SOT23, 5-Leads, Body 2.9x1.6mm, Pitch 0.95mm, IPC High Density)
footprint TI-DBV5_M (SOT23, 5-Leads, Body 2.9x1.6mm, Pitch 0.95mm, IPC Low Density)
pins: 1 SW (power) "Connect the inductor and the Schottky diode to this pin. This is the switch pin and is connected to the drain of the internal power MOSFET.", 2 GND (power) "Ground", 3 FB (in) "This is the feedback pin of the device. Connect this pin to the external voltage divider to program the desired output voltage.", 4 EN (in) "This is the enable pin of the device. Pulling this pin to ground forces the device into shutdown mode reducing the supply current to less than 1 uA. This pin should not be left floating and needs to be terminated.", 5 VIN (power) "Supply voltage pin"

## TPS61041DBVRG4
designator U?
28 V, 250 mA Switch Boost Converter for LCD and White LED Applications, 1.8 to 6 V, -40 to 85 degC, 5-pin SOT23 (DBV5), Green (RoHS & no Sb/Br); Manufacturer: Texas Instruments; PartNumber: TPS61041DBVRG4; Dimming: TRUE; Iout(Max)(A): 0.05; Iq(Typ)(mA): 0.028; Rating: Catalog; SubFamily: White LED Driver; Switching Frequency(Max)(kHz): 1000; Vin(Max)(V): 6; Vin(Min)(V): 1.8; DatasheetVersion: SLVS413F; PackageVersion: 4073253-4/K; PackageReference: DBV5; PackageDescription: 5-Pin Plastic Small Outline, Body 1.60 × 2.90 mm, Pitch 0.95 mm; Supplier 1: Digi-Key; Supplier Part Number 1: TPS61041DBVRG4-ND; Supplier 2: Newark; Supplier Part Number 2: 65J6905; Supplier 3: Mouser; Supplier Part Number 3: 595-TPS61041DBVRG4; Eco-Plan: Green (RoHS & no Sb/Br); Topology: Boost; Mounting Technology: Surface Mount; Code_JEDEC: MO-178; ComponentLink1Description: Manufacturer URL; ComponentLink1URL: http://www.ti.com/; ComponentLink2Description: Datasheet; ComponentLink2URL: http://www.ti.com/general/docs/lit/getliterature.tsp?genericPartNumber=TPS61041&fileType=pdf; ComponentLink3Description: Package Specification; ComponentLink3URL: http://www.ti.com/litv/pdf/mpds018i
footprint TI-DBV5_N (SOT23, 5-Leads, Body 2.9x1.6mm, Pitch 0.95mm, IPC Medium Density)
footprint TI-DBV5_L (SOT23, 5-Leads, Body 2.9x1.6mm, Pitch 0.95mm, IPC High Density)
footprint TI-DBV5_M (SOT23, 5-Leads, Body 2.9x1.6mm, Pitch 0.95mm, IPC Low Density)
pins: 1 SW (power) "Connect the inductor and the Schottky diode to this pin. This is the switch pin and is connected to the drain of the internal power MOSFET.", 2 GND (power) "Ground", 3 FB (in) "This is the feedback pin of the device. Connect this pin to the external voltage divider to program the desired output voltage.", 4 EN (in) "This is the enable pin of the device. Pulling this pin to ground forces the device into shutdown mode reducing the supply current to less than 1 uA. This pin should not be left floating and needs to be terminated.", 5 VIN (power) "Supply voltage pin"

## TPS61041DRVR
designator U?
28 V, 250 mA Switch Boost Converter for LCD and White LED Applications, 1.8 to 6 V, -40 to 85 degC, 6-pin SON (DRV6), Green (RoHS & no Sb/Br); Manufacturer: Texas Instruments; PartNumber: TPS61041DRVR; Dimming: TRUE; Iout(Max)(A): 0.05; Iq(Typ)(mA): 0.028; Rating: Catalog; SubFamily: White LED Driver; Switching Frequency(Max)(kHz): 1000; Vin(Max)(V): 6; Vin(Min)(V): 1.8; DatasheetVersion: SLVS413F; PackageVersion: 4206925/E; PackageReference: DRV6-1600X1000TP; PackageDescription: 6-Pin Plastic Small Outline No-Lead, Body 2 x 2 mm, Pitch 0.65 mm; Supplier 1: Digi-Key; Supplier Part Number 1: 296-22981-2-ND; Supplier 2: Digi-Key; Supplier Part Number 2: 296-22981-1-ND; Supplier 3: Digi-Key; Supplier Part Number 3: 296-22981-6-ND; Supplier 4: Newark; Supplier Part Number 4: 72M4769; Supplier 5: Mouser; Supplier Part Number 5: 595-TPS61041DRVR; Eco-Plan: Green (RoHS & no Sb/Br); Topology: Boost; Mounting Technology: Surface Mount; ComponentLink1Description: Manufacturer URL; ComponentLink1URL: http://www.ti.com/; ComponentLink2Description: Datasheet; ComponentLink2URL: http://www.ti.com/general/docs/lit/getliterature.tsp?genericPartNumber=TPS61041&fileType=pdf; ComponentLink3Description: Package Specification; ComponentLink3URL: http://www.ti.com/litv/pdf/mpds216d
footprint TI-DRV6-1600X1000TP_V (SON, 6-Leads, Body 2x2mm, Pitch 0.65mm, Thermal Pad 1X1.6mm)
pins: 1 GND (power) "Ground", 2 VIN (power) "Supply voltage pin", 3 EN (in) "This is the enable pin of the device. Pulling this pin to ground forces the device into shutdown mode reducing the supply current to less than 1 uA. This pin should not be left floating and needs to be terminated.", 4 FB (in) "This is the feedback pin of the device. Connect this pin to the external voltage divider to program the desired output voltage.", 5 NC "No connection", 6 SW (power) "Connect the inductor and the Schottky diode to this pin. This is the switch pin and is connected to the drain of the internal power MOSFET.", 7 EP "Exposed Thermal Pad."

## TPS61041DRVRG4
designator U?
28 V, 250 mA Switch Boost Converter for LCD and White LED Applications, 1.8 to 6 V, -40 to 85 degC, 6-pin SON (DRV6), Green (RoHS & no Sb/Br); Manufacturer: Texas Instruments; PartNumber: TPS61041DRVRG4; Dimming: TRUE; Iout(Max)(A): 0.05; Iq(Typ)(mA): 0.028; Rating: Catalog; SubFamily: White LED Driver; Switching Frequency(Max)(kHz): 1000; Vin(Max)(V): 6; Vin(Min)(V): 1.8; DatasheetVersion: SLVS413F; PackageVersion: 4206925/E; PackageReference: DRV6-1600X1000TP; PackageDescription: 6-Pin Plastic Small Outline No-Lead, Body 2 x 2 mm, Pitch 0.65 mm; Supplier 1: Digi-Key; Supplier Part Number 1: TPS61041DRVRG4-ND; Supplier 2: Mouser; Supplier Part Number 2: 595-TPS61041DRVRG4; Eco-Plan: Green (RoHS & no Sb/Br); Topology: Boost; Mounting Technology: Surface Mount; ComponentLink1Description: Manufacturer URL; ComponentLink1URL: http://www.ti.com/; ComponentLink2Description: Datasheet; ComponentLink2URL: http://www.ti.com/general/docs/lit/getliterature.tsp?genericPartNumber=TPS61041&fileType=pdf; ComponentLink3Description: Package Specification; ComponentLink3URL: http://www.ti.com/litv/pdf/mpds216d
footprint TI-DRV6-1600X1000TP_V (SON, 6-Leads, Body 2x2mm, Pitch 0.65mm, Thermal Pad 1X1.6mm)
pins: 1 GND (power) "Ground", 2 VIN (power) "Supply voltage pin", 3 EN (in) "This is the enable pin of the device. Pulling this pin to ground forces the device into shutdown mode reducing the supply current to less than 1 uA. This pin should not be left floating and needs to be terminated.", 4 FB (in) "This is the feedback pin of the device. Connect this pin to the external voltage divider to program the desired output voltage.", 5 NC "No connection", 6 SW (power) "Connect the inductor and the Schottky diode to this pin. This is the switch pin and is connected to the drain of the internal power MOSFET.", 7 EP "Exposed Thermal Pad."